# Altium schematic symbol library ACDSW4148-G Swtiching Diode.SchLib: 1 symbol
Pins are listed as number, name and electrical type; pins without a type are passive.

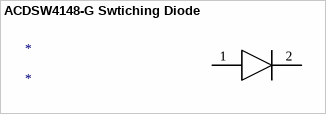
[diagram p0: symbol ACDSW4148-G Swtiching Diode]

## ACDSW4148-G Swtiching Diode
designator *
pins: 1, 2